# EAGLE library part SN75518 (library Ketturi electronics)
SN75518 VACUUM FLUORESCENT DISPLAY DRIVERS SN75518 is monolithic BIDFET integrated circuit designed to drive a dot matrix or segmented vacuum fluorescent display. Device consists of a 32-bit shift register, 32 latches, and 32 output AND gates. Serial data is entered into the shift register on the low-to-high transition of CLOCK. While LATCH ENABLE is high, parallel data is transferred to the output buffers through a 32-bit latch. Data present in the latch during the high-to-low transition of LATCH ENABLE is latched. When STROBE is low, all Q outputs are enabled. When STROBE is high, all Q outputs are low. Serial data output from the shift register may be used to cascade additional devices. This output is not affected by LATCH ENABLE or STROBE.
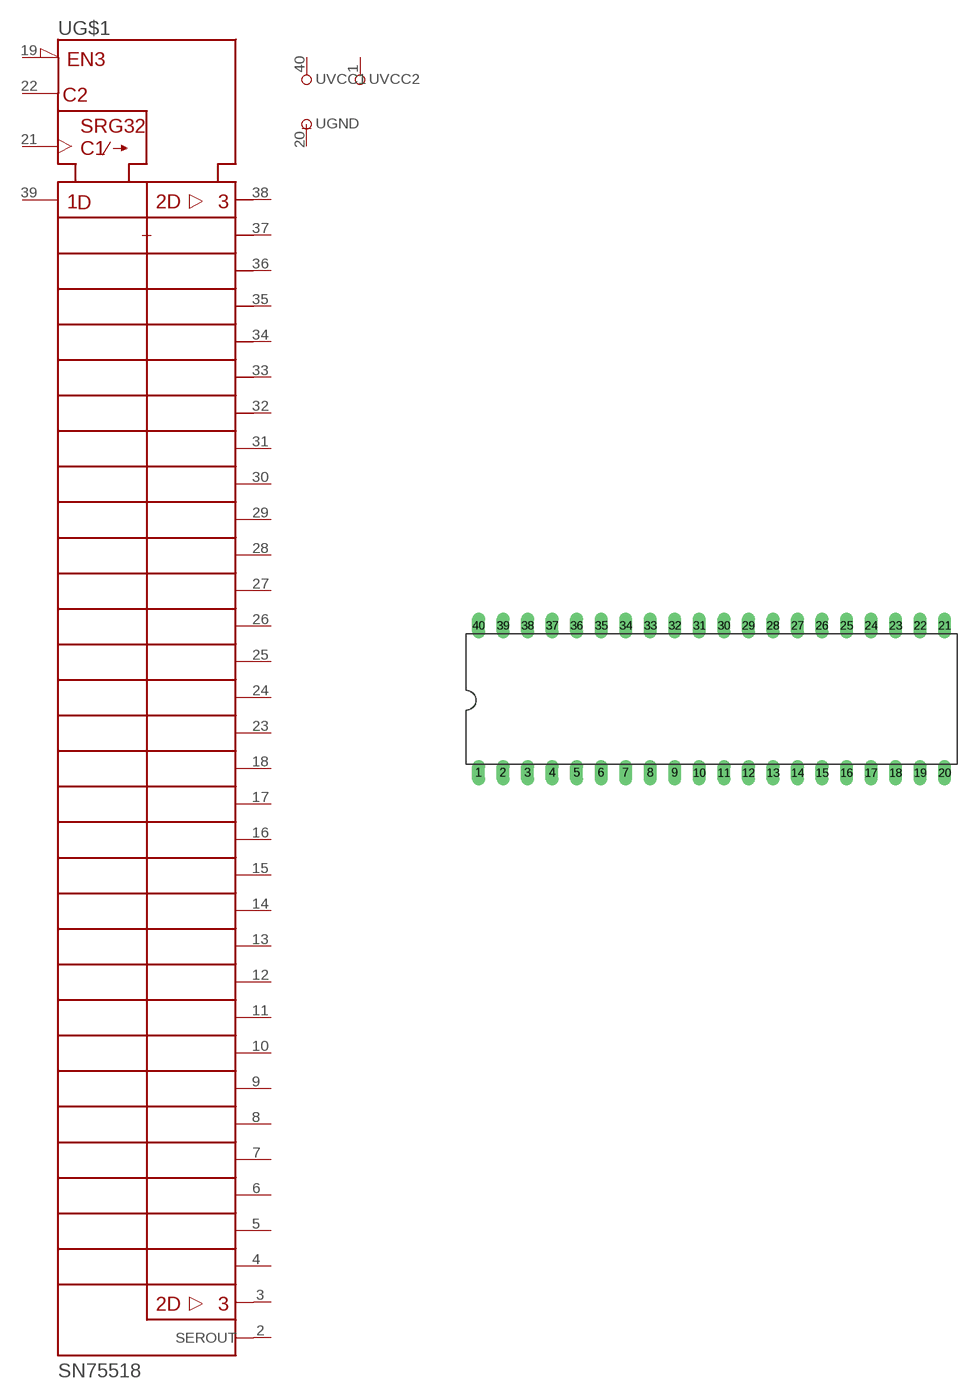
[diagram p1: symbol with the pads of DIL40; footprint DIL40]

Designator prefix -; gates G$1=SN75518 VCC1=VCC1 VCC2=VCC2 GND=GND

## SN75518  [DIL40]
1  VCC2:VCC2  pwr
2  G$1:SEROUT  out
3  G$1:P$32  hiz
4  G$1:P$31
5  G$1:P$30
6  G$1:P$29
7  G$1:P$28
8  G$1:P$27
9  G$1:P$26
10  G$1:P$25
11  G$1:P$24
12  G$1:P$23
13  G$1:P$22
14  G$1:P$21
15  G$1:P$20
16  G$1:P$19
17  G$1:P$18
18  G$1:P$17
19  G$1:STROBE  in
20  GND:GND  pwr
21  G$1:CLK  in
22  G$1:LATCH  in
23  G$1:P$16
24  G$1:P$15
25  G$1:P$14
26  G$1:P$13
27  G$1:P$12
28  G$1:P$11
29  G$1:P$10
30  G$1:P$9
31  G$1:P$8
32  G$1:P$7
33  G$1:P$6
34  G$1:P$5
35  G$1:P$4
36  G$1:P$3
37  G$1:P$2
38  G$1:P$1
39  G$1:DIN  in
40  VCC1:VCC1  pwr

## Footprint DIL40 (pad centres in mm)
Dual In Line Package
drill 0.813 long: 1 -24.13,-7.62; 2 -21.59,-7.62; 3 -19.05,-7.62; 4 -16.51,-7.62; 5 -13.97,-7.62; 6 -11.43,-7.62; 7 -8.89,-7.62; 8 -6.35,-7.62; 9 -3.81,-7.62; 10 -1.27,-7.62; 11 1.27,-7.62; 12 3.81,-7.62; 13 6.35,-7.62; 14 8.89,-7.62; 15 11.43,-7.62; 16 13.97,-7.62; 17 16.51,-7.62; 18 19.05,-7.62; 19 21.59,-7.62; 20 24.13,-7.62; 21 24.13,7.62; 22 21.59,7.62; 23 19.05,7.62; 24 16.51,7.62; 25 13.97,7.62; 26 11.43,7.62; 27 8.89,7.62; 28 6.35,7.62; 29 3.81,7.62; 30 1.27,7.62; 31 -1.27,7.62; 32 -3.81,7.62; 33 -6.35,7.62; 34 -8.89,7.62; 35 -11.43,7.62; 36 -13.97,7.62; 37 -16.51,7.62; 38 -19.05,7.62; 39 -21.59,7.62; 40 -24.13,7.62